# Altium footprint library SIP封装库.PcbLib: 37 footprints (part 1 of 3)
Each footprint in its own frame and in the unit in brackets; x right, y up, seen from the top. Pads: shape width x height; smd on the part's side, far side on the other; paste and mask are expansions set on the pad; w line width, h text height; cw(c..) or ccw(c..) is an arc to the next point about the centre after c.
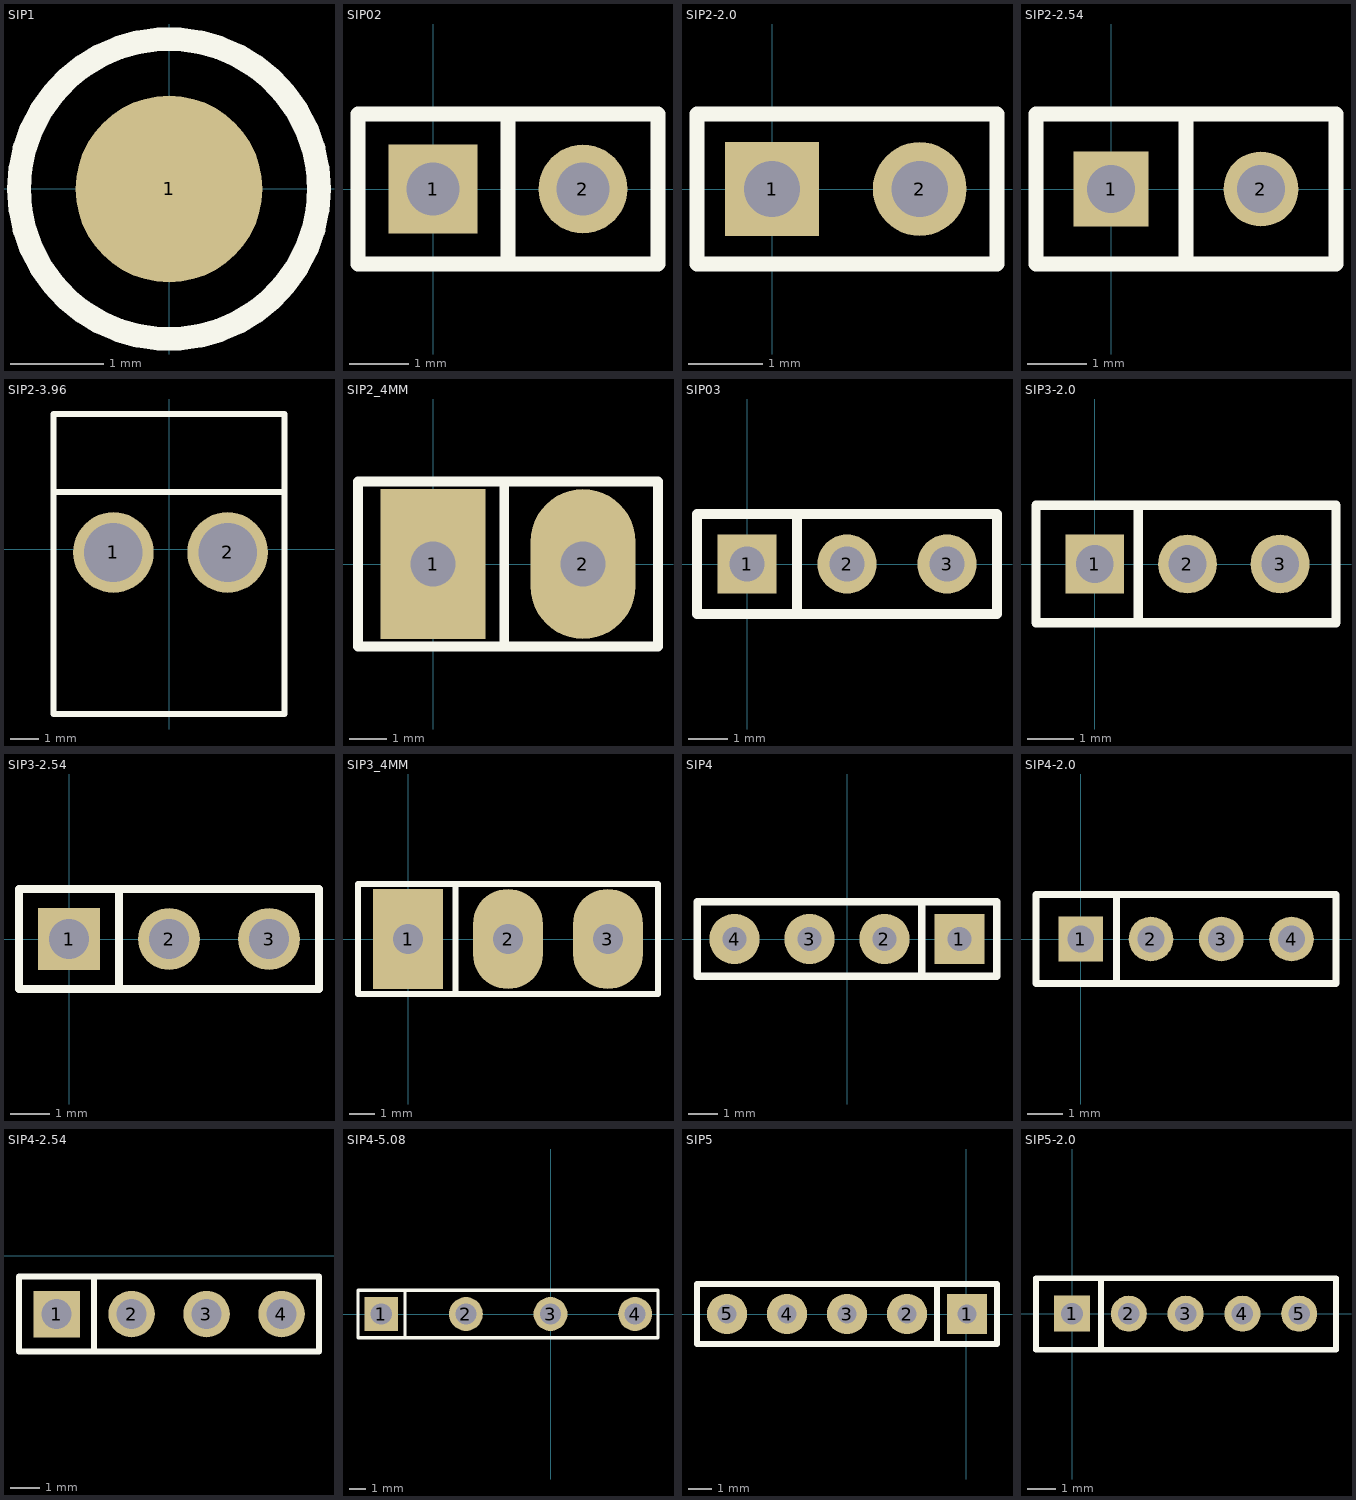
[diagram p0: the footprints below, top view; thin cyan lines are the x and y axes]

## SIP1 [mm]
pads (1):
  round 2 smd: 1(0,0)
Top Overlay:
  circle w0.254: c0,0 r1.606

## SIP02 [mm]
pads (2):
  rect 1.5x1.5 hole 0.9: 1(0,0)
  round 1.5 hole 0.9: 2(2.54,0)
Top Overlay:
  lines w0.254: 1.27,-1.27 1.27,1.27 ; -1.27,-1.27 -1.27,1.27 3.81,1.27 3.81,-1.27 -1.27,-1.27
3D body: height 8.54, standoff -3, extent -1.27,-1.27 3.81,1.27

## SIP2-2.0 [mil]
pads (2):
  rect 50x50 hole 30: 1(0,0)
  round 50 hole 30: 2(78.74,0)
Top Overlay:
  lines w8: -40,-40 120,-40 120,40 -40,40 -40,-40

## SIP2-2.54 [mil]
pads (2):
  rect 50x50 hole 32: 1(0,0)
  round 50 hole 32: 2(100,0)
Top Overlay:
  lines w10: 50,-50 50,50 ; -50,-50 -50,50 150,50 150,-50 -50,-50

## SIP2-3.96 [mil]
pads (2):
  round 110 hole 80: 1(-75.91,-4.25) 2(80,-4.25)
Top Overlay:
  lines w8: -157.48,78.42 157.48,78.42 ; -157.48,-224.72 -157.48,184.72 157.48,184.72 157.48,-224.72 -157.48,-224.72

## SIP2_4MM [mm]
pads (2):
  rect 2.8x4 hole 1.2: 1(0,0)
  oval 2.8x4 hole 1.2: 2(4,0)
Top Overlay:
  lines w0.254: 1.9,-2.2 1.9,2.2 ; -2,-2.2 -2,2.2 6,2.2 6,-2.2 -2,-2.2

## SIP03 [mm]
pads (3):
  rect 1.5x1.5 hole 0.9: 1(0,0)
  round 1.5 hole 0.9: 2(2.54,0) 3(5.08,0)
Top Overlay:
  lines w0.254: 1.27,-1.27 1.27,1.27 ; -1.27,-1.27 6.35,-1.27 6.35,1.27 -1.27,1.27 -1.27,-1.27
3D body: height 8.54, standoff -3, extent -1.27,-1.27 6.35,1.27

## SIP3-2.0 [mil]
pads (3):
  rect 50x50 hole 32: 1(0,0)
  round 50 hole 32: 2(78.74,0) 3(157.48,0)
Top Overlay:
  lines w8: 37,50 37,-49 38,-50 ; -50,-50 205,-50 205,50 -50,50 -50,-50

## SIP3-2.54 [mil]
pads (3):
  rect 62x62 hole 40: 1(0,0)
  round 62 hole 40: 2(100,0) 3(200,0)
Top Overlay:
  lines w8: 50,-50 50,50 ; -50,-50 -50,50 250,50 250,-50 -50,-50

## SIP3_4MM [mm]
pads (3):
  rect 2.8x4 hole 1.2: 1(0,0)
  oval 2.8x4 hole 1.2: 2(4,0) 3(8,0)
Top Overlay:
  lines w0.254: 1.9,-2.2 1.9,2.2 ; -2,-2.2 -2,2.2 10,2.2 10,-2.2 -2,-2.2

## SIP4 [mm]
pads (4):
  rect 1.7x1.7 hole 0.8: 1(3.81,0)
  round 1.7 hole 0.8: 2(1.27,0) 3(-1.27,0) 4(-3.81,0)
Top Overlay:
  lines w0.254: 2.54,-1.27 2.54,1.27 ; -5.08,-1.27 5.08,-1.27 5.08,1.27 -5.08,1.27 -5.08,-1.27

## SIP4-2.0 [mil]
pads (4):
  rect 50x50 hole 30: 1(0,0)
  round 50 hole 30: 2(78.74,0) 3(157.48,0) 4(236.22,0)
Top Overlay:
  lines w8: 40,-50 40,50 ; -50,-50 286,-50 286,50 -50,50 -50,-50

## SIP4-2.54 [mil]
pads (4):
  rect 62x62 hole 40: 1(79,-78)
  round 62 hole 40: 2(179,-78) 3(279,-78) 4(379,-78)
Top Overlay:
  lines w8: 129,-128 129,-28 ; 29,-128 29,-28 429,-28 429,-128 29,-128

## SIP4-5.08 [mil]
pads (4):
  rect 80x80 hole 50: 1(-400,0)
  round 80 hole 50: 2(-200,0) 3(0,0) 4(200,0)
Top Overlay:
  lines w8: -455,-56 254,-56 254,56 -455,56 ; -455,-55 -455,55 ; -344,-56 -344,56

## SIP5 [mm]
pads (5):
  rect 1.7x1.7 hole 0.8: 1(0.022,0.017)
  round 1.7 hole 0.8: 2(-2.518,0.017) 3(-5.058,0.017) 4(-7.598,0.017) 5(-10.138,0.017)
Top Overlay:
  lines w0.254: -1.248,-1.253 -1.248,1.287 ; -11.408,-1.253 -11.408,1.287 1.292,1.287 1.292,-1.253 -11.408,-1.253

## SIP5-2.0 [mil]
pads (5):
  rect 50x50 hole 30: 1(0,0)
  round 50 hole 30: 2(78.74,0) 3(157.48,0) 4(236.22,0) 5(314.96,0)
Top Overlay:
  lines w8: 40,-50 40,47 ; -50,-50 -50,49 366,49 366,-50 -50,-50